# Altium schematic symbol library IC_RELAYS_SWITCHES.SchLib: 1 symbol
Pins are listed as number, name and electrical type; pins without a type are passive.

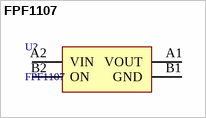
[diagram p0: symbol FPF1107]

## FPF1107
designator U?
Advance load management switch; Ratio: 1:1; Current: 1.2A; Rds: 0.035; HelpURL: https://www.fairchildsemi.com/datasheets/FP/FPF1107.pdf; Supplier: https://www.digikey.com/product-detail/en/fairchild-on-semiconductor/FPF1107/FPF1107CT-ND/4744375; Type: Non-Inverting
footprint BGA4-0.5_0.96x0.96 (BGA, 4-Leads, Body 0,96x0,96mmx0,63mm, Pitch 0,50mm)
pins: A1 VOUT, A2 VIN, B1 GND, B2 ON